# EAGLE library part EBYTE-E220-900T22D (library EBYTE-E220-900T22D)
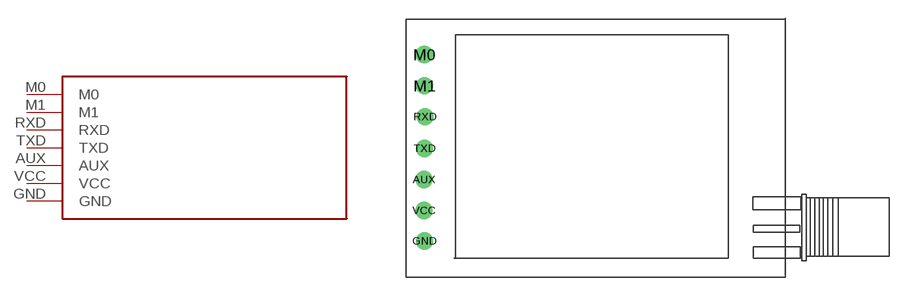
[diagram p0: symbol with the pads of EBYTE-E220-900T22D; footprint EBYTE-E220-900T22D]

Designator prefix -

## EBYTE-E220-900T22D  [EBYTE-E220-900T22D]
AUX  AUX
GND  GND
M0  M0
M1  M1
RXD  RXD
TXD  TXD
VCC  VCC

## Footprint EBYTE-E220-900T22D (pad centres in mm)
drill 0.9: AUX -14.96,12.02; GND -14.92,7.02; M0 -14.94,22.2; M1 -14.92,19.66; RXD -14.88,17.14; TXD -14.92,14.56; VCC -14.96,9.5